# Altium integrated library Panasonic_ERJ_0603.IntLib: 1244 symbols (part 3 of 25)
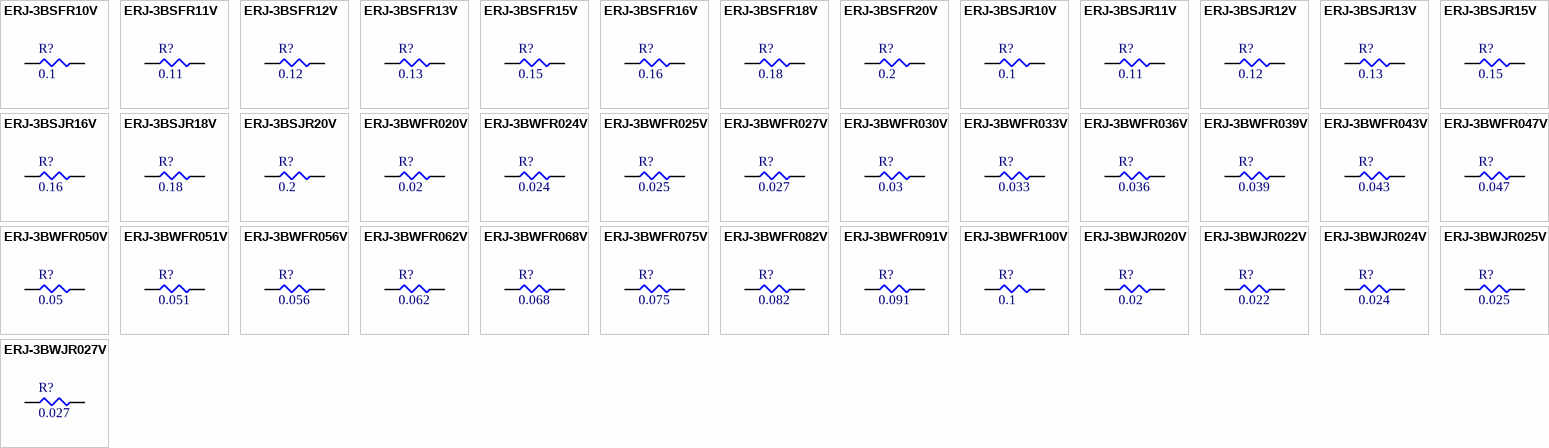
[diagram p33: symbols ERJ-3BSFR10V to ERJ-3BWJR027V]

## ERJ-3BWFR036V
designator R?, comment 0.036
RES SMD 0.036 OHM 1% 1/3W 0603; Part Number: ERJ-3BWFR036V; Manufacturer: Panasonic Electronic Components; Factory Stock: 0; Unit Price (USD): 0.07040; @ qty: 1500; Minimum Quantity: 1; Power (Watts): 0.333W, 1/3W; Temperature Coefficient: ±250ppm/°C; Datasheets: https://industrial.panasonic.com/cdbs/www-data/pdf/RDA0000/AOA0000C239.pdf; Image: //media.digikey.com/Photos/Panasonic%20Photos/MFG_ERJ-P6W%20Series.jpg; Digi-Key Part Number: P17468CT-ND; Quantity Available: 9444; Packaging: Cut Tape (CT); Series: ERJ; Part Status: Active; Value: 0.036; Tolerance: ±1%; Composition: Thick Film; Features: Automotive AEC-Q200, Current Sense; Operating Temperature: -55°C ~ 155°C; Package / Case: 0603 (1608 Metric); Supplier Device Package: 0603; Size / Dimension: 0.063" L x 0.031" W (1.60mm x 0.80mm); Height - Seated (Max): 0.026" (0.65mm); Number of Terminations: 2; Failure Rate: -
footprint SMD-0603-RES
pins: 1, 2

## ERJ-3BWFR039V
designator R?, comment 0.039
RES SMD 0.039 OHM 1% 1/3W 0603; Part Number: ERJ-3BWFR039V; Manufacturer: Panasonic Electronic Components; Factory Stock: 0; Unit Price (USD): 0.07040; @ qty: 1500; Minimum Quantity: 1; Power (Watts): 0.333W, 1/3W; Temperature Coefficient: ±150ppm/°C; Datasheets: https://industrial.panasonic.com/cdbs/www-data/pdf/RDA0000/AOA0000C239.pdf; Image: //media.digikey.com/Photos/Panasonic%20Photos/MFG_ERJ-P6W%20Series.jpg; Digi-Key Part Number: P17469CT-ND; Quantity Available: 5217; Packaging: Cut Tape (CT); Series: ERJ; Part Status: Active; Value: 0.039; Tolerance: ±1%; Composition: Thick Film; Features: Automotive AEC-Q200, Current Sense; Operating Temperature: -55°C ~ 155°C; Package / Case: 0603 (1608 Metric); Supplier Device Package: 0603; Size / Dimension: 0.063" L x 0.031" W (1.60mm x 0.80mm); Height - Seated (Max): 0.026" (0.65mm); Number of Terminations: 2; Failure Rate: -
footprint SMD-0603-RES
pins: 1, 2

## ERJ-3BWFR043V
designator R?, comment 0.043
RES SMD 0.043 OHM 1% 1/3W 0603; Part Number: ERJ-3BWFR043V; Manufacturer: Panasonic Electronic Components; Factory Stock: 0; Unit Price (USD): 0.07040; @ qty: 1500; Minimum Quantity: 1; Power (Watts): 0.333W, 1/3W; Temperature Coefficient: ±150ppm/°C; Datasheets: https://industrial.panasonic.com/cdbs/www-data/pdf/RDA0000/AOA0000C239.pdf; Image: //media.digikey.com/Photos/Panasonic%20Photos/MFG_ERJ-P6W%20Series.jpg; Digi-Key Part Number: P17470CT-ND; Quantity Available: 3820; Packaging: Cut Tape (CT); Series: ERJ; Part Status: Active; Value: 0.043; Tolerance: ±1%; Composition: Thick Film; Features: Automotive AEC-Q200, Current Sense; Operating Temperature: -55°C ~ 155°C; Package / Case: 0603 (1608 Metric); Supplier Device Package: 0603; Size / Dimension: 0.063" L x 0.031" W (1.60mm x 0.80mm); Height - Seated (Max): 0.026" (0.65mm); Number of Terminations: 2; Failure Rate: -
footprint SMD-0603-RES
pins: 1, 2

## ERJ-3BWFR047V
designator R?, comment 0.047
RES SMD 0.047 OHM 1% 1/3W 0603; Part Number: ERJ-3BWFR047V; Manufacturer: Panasonic Electronic Components; Factory Stock: 0; Unit Price (USD): 0.07040; @ qty: 1500; Minimum Quantity: 1; Power (Watts): 0.333W, 1/3W; Temperature Coefficient: ±150ppm/°C; Datasheets: https://industrial.panasonic.com/cdbs/www-data/pdf/RDA0000/AOA0000C239.pdf; Image: //media.digikey.com/Photos/Panasonic%20Photos/MFG_ERJ-P6W%20Series.jpg; Digi-Key Part Number: P17471CT-ND; Quantity Available: 990; Packaging: Cut Tape (CT); Series: ERJ; Part Status: Active; Value: 0.047; Tolerance: ±1%; Composition: Thick Film; Features: Automotive AEC-Q200, Current Sense; Operating Temperature: -55°C ~ 155°C; Package / Case: 0603 (1608 Metric); Supplier Device Package: 0603; Size / Dimension: 0.063" L x 0.031" W (1.60mm x 0.80mm); Height - Seated (Max): 0.026" (0.65mm); Number of Terminations: 2; Failure Rate: -
footprint SMD-0603-RES
pins: 1, 2

## ERJ-3BWFR050V
designator R?, comment 0.05
RES SMD 0.05 OHM 1% 1/3W 0603; Part Number: ERJ-3BWFR050V; Manufacturer: Panasonic Electronic Components; Factory Stock: 0; Unit Price (USD): 0.07040; @ qty: 1500; Minimum Quantity: 1; Power (Watts): 0.333W, 1/3W; Temperature Coefficient: ±150ppm/°C; Datasheets: https://industrial.panasonic.com/cdbs/www-data/pdf/RDA0000/AOA0000C239.pdf; Image: //media.digikey.com/Photos/Panasonic%20Photos/MFG_ERJ-P6W%20Series.jpg; Digi-Key Part Number: P17472CT-ND; Quantity Available: 7951; Packaging: Cut Tape (CT); Series: ERJ; Part Status: Active; Value: 0.05; Tolerance: ±1%; Composition: Thick Film; Features: Automotive AEC-Q200, Current Sense; Operating Temperature: -55°C ~ 155°C; Package / Case: 0603 (1608 Metric); Supplier Device Package: 0603; Size / Dimension: 0.063" L x 0.031" W (1.60mm x 0.80mm); Height - Seated (Max): 0.026" (0.65mm); Number of Terminations: 2; Failure Rate: -
footprint SMD-0603-RES
pins: 1, 2

## ERJ-3BWFR051V
designator R?, comment 0.051
RES SMD 0.051 OHM 1% 1/3W 0603; Part Number: ERJ-3BWFR051V; Manufacturer: Panasonic Electronic Components; Factory Stock: 0; Unit Price (USD): 0.07040; @ qty: 1500; Minimum Quantity: 1; Power (Watts): 0.333W, 1/3W; Temperature Coefficient: ±150ppm/°C; Datasheets: https://industrial.panasonic.com/cdbs/www-data/pdf/RDA0000/AOA0000C239.pdf; Image: //media.digikey.com/Photos/Panasonic%20Photos/MFG_ERJ-P6W%20Series.jpg; Digi-Key Part Number: P17473CT-ND; Quantity Available: 32866; Packaging: Cut Tape (CT); Series: ERJ; Part Status: Active; Value: 0.051; Tolerance: ±1%; Composition: Thick Film; Features: Automotive AEC-Q200, Current Sense; Operating Temperature: -55°C ~ 155°C; Package / Case: 0603 (1608 Metric); Supplier Device Package: 0603; Size / Dimension: 0.063" L x 0.031" W (1.60mm x 0.80mm); Height - Seated (Max): 0.026" (0.65mm); Number of Terminations: 2; Failure Rate: -
footprint SMD-0603-RES
pins: 1, 2

## ERJ-3BWFR056V
designator R?, comment 0.056
RES SMD 0.056 OHM 1% 1/3W 0603; Part Number: ERJ-3BWFR056V; Manufacturer: Panasonic Electronic Components; Factory Stock: 0; Unit Price (USD): 0.09600; @ qty: 1500; Minimum Quantity: 1; Power (Watts): 0.333W, 1/3W; Temperature Coefficient: ±150ppm/°C; Datasheets: https://industrial.panasonic.com/cdbs/www-data/pdf/RDA0000/AOA0000C239.pdf; Image: //media.digikey.com/Photos/Panasonic%20Photos/MFG_ERJ-P6W%20Series.jpg; Digi-Key Part Number: P17249CT-ND; Quantity Available: 2303; Packaging: Cut Tape (CT); Series: ERJ; Part Status: Active; Value: 0.056; Tolerance: ±1%; Composition: Thick Film; Features: Automotive AEC-Q200, Current Sense; Operating Temperature: -55°C ~ 155°C; Package / Case: 0603 (1608 Metric); Supplier Device Package: 0603; Size / Dimension: 0.063" L x 0.031" W (1.60mm x 0.80mm); Height - Seated (Max): 0.026" (0.65mm); Number of Terminations: 2; Failure Rate: -
footprint SMD-0603-RES
pins: 1, 2

## ERJ-3BWFR062V
designator R?, comment 0.062
RES SMD 0.062 OHM 1% 1/3W 0603; Part Number: ERJ-3BWFR062V; Manufacturer: Panasonic Electronic Components; Factory Stock: 0; Unit Price (USD): 0.07040; @ qty: 1500; Minimum Quantity: 1; Power (Watts): 0.333W, 1/3W; Temperature Coefficient: ±150ppm/°C; Datasheets: https://industrial.panasonic.com/cdbs/www-data/pdf/RDA0000/AOA0000C239.pdf; Image: //media.digikey.com/Photos/Panasonic%20Photos/MFG_ERJ-P6W%20Series.jpg; Digi-Key Part Number: P17474CT-ND; Quantity Available: 9074; Packaging: Cut Tape (CT); Series: ERJ; Part Status: Active; Value: 0.062; Tolerance: ±1%; Composition: Thick Film; Features: Automotive AEC-Q200, Current Sense; Operating Temperature: -55°C ~ 155°C; Package / Case: 0603 (1608 Metric); Supplier Device Package: 0603; Size / Dimension: 0.063" L x 0.031" W (1.60mm x 0.80mm); Height - Seated (Max): 0.026" (0.65mm); Number of Terminations: 2; Failure Rate: -
footprint SMD-0603-RES
pins: 1, 2

## ERJ-3BWFR068V
designator R?, comment 0.068
RES SMD 0.068 OHM 1% 1/3W 0603; Part Number: ERJ-3BWFR068V; Manufacturer: Panasonic Electronic Components; Factory Stock: 0; Unit Price (USD): 0.15960; @ qty: 1500; Minimum Quantity: 1; Power (Watts): 0.333W, 1/3W; Temperature Coefficient: ±150ppm/°C; Datasheets: https://industrial.panasonic.com/cdbs/www-data/pdf/RDA0000/AOA0000C239.pdf; Image: //media.digikey.com/Photos/Panasonic%20Photos/MFG_ERJ-P6W%20Series.jpg; Digi-Key Part Number: P15990CT-ND; Quantity Available: 11832; Packaging: Cut Tape (CT); Series: ERJ; Part Status: Active; Value: 0.068; Tolerance: ±1%; Composition: Thick Film; Features: Automotive AEC-Q200, Current Sense; Operating Temperature: -55°C ~ 155°C; Package / Case: 0603 (1608 Metric); Supplier Device Package: 0603; Size / Dimension: 0.063" L x 0.031" W (1.60mm x 0.80mm); Height - Seated (Max): 0.026" (0.65mm); Number of Terminations: 2; Failure Rate: -
footprint SMD-0603-RES
pins: 1, 2

## ERJ-3BWFR075V
designator R?, comment 0.075
RES SMD 0.075 OHM 1% 1/3W 0603; Part Number: ERJ-3BWFR075V; Manufacturer: Panasonic Electronic Components; Factory Stock: 0; Unit Price (USD): 0.07040; @ qty: 1500; Minimum Quantity: 1; Power (Watts): 0.333W, 1/3W; Temperature Coefficient: ±150ppm/°C; Datasheets: https://industrial.panasonic.com/cdbs/www-data/pdf/RDA0000/AOA0000C239.pdf; Image: //media.digikey.com/Photos/Panasonic%20Photos/MFG_ERJ-P6W%20Series.jpg; Digi-Key Part Number: P17475CT-ND; Quantity Available: 2217; Packaging: Cut Tape (CT); Series: ERJ; Part Status: Active; Value: 0.075; Tolerance: ±1%; Composition: Thick Film; Features: Automotive AEC-Q200, Current Sense; Operating Temperature: -55°C ~ 155°C; Package / Case: 0603 (1608 Metric); Supplier Device Package: 0603; Size / Dimension: 0.063" L x 0.031" W (1.60mm x 0.80mm); Height - Seated (Max): 0.026" (0.65mm); Number of Terminations: 2; Failure Rate: -
footprint SMD-0603-RES
pins: 1, 2

## ERJ-3BWFR082V
designator R?, comment 0.082
RES SMD 0.082 OHM 1% 1/3W 0603; Part Number: ERJ-3BWFR082V; Manufacturer: Panasonic Electronic Components; Factory Stock: 0; Unit Price (USD): 0.07040; @ qty: 1500; Minimum Quantity: 1; Power (Watts): 0.333W, 1/3W; Temperature Coefficient: ±150ppm/°C; Datasheets: https://industrial.panasonic.com/cdbs/www-data/pdf/RDA0000/AOA0000C239.pdf; Image: //media.digikey.com/Photos/Panasonic%20Photos/MFG_ERJ-P6W%20Series.jpg; Digi-Key Part Number: P17476CT-ND; Quantity Available: 3875; Packaging: Cut Tape (CT); Series: ERJ; Part Status: Active; Value: 0.082; Tolerance: ±1%; Composition: Thick Film; Features: Automotive AEC-Q200, Current Sense; Operating Temperature: -55°C ~ 155°C; Package / Case: 0603 (1608 Metric); Supplier Device Package: 0603; Size / Dimension: 0.063" L x 0.031" W (1.60mm x 0.80mm); Height - Seated (Max): 0.026" (0.65mm); Number of Terminations: 2; Failure Rate: -
footprint SMD-0603-RES
pins: 1, 2

## ERJ-3BWFR091V
designator R?, comment 0.091
RES SMD 0.091 OHM 1% 1/3W 0603; Part Number: ERJ-3BWFR091V; Manufacturer: Panasonic Electronic Components; Factory Stock: 0; Unit Price (USD): 0.07040; @ qty: 1500; Minimum Quantity: 1; Power (Watts): 0.333W, 1/3W; Temperature Coefficient: ±150ppm/°C; Datasheets: https://industrial.panasonic.com/cdbs/www-data/pdf/RDA0000/AOA0000C239.pdf; Image: //media.digikey.com/Photos/Panasonic%20Photos/MFG_ERJ-P6W%20Series.jpg; Digi-Key Part Number: P17477CT-ND; Quantity Available: 3390; Packaging: Cut Tape (CT); Series: ERJ; Part Status: Active; Value: 0.091; Tolerance: ±1%; Composition: Thick Film; Features: Automotive AEC-Q200, Current Sense; Operating Temperature: -55°C ~ 155°C; Package / Case: 0603 (1608 Metric); Supplier Device Package: 0603; Size / Dimension: 0.063" L x 0.031" W (1.60mm x 0.80mm); Height - Seated (Max): 0.026" (0.65mm); Number of Terminations: 2; Failure Rate: -
footprint SMD-0603-RES
pins: 1, 2

## ERJ-3BWFR100V
designator R?, comment 0.1
RES SMD 0.1 OHM 1% 1/3W 0603; Part Number: ERJ-3BWFR100V; Manufacturer: Panasonic Electronic Components; Factory Stock: 0; Unit Price (USD): 0.07040; @ qty: 1500; Minimum Quantity: 1; Power (Watts): 0.333W, 1/3W; Temperature Coefficient: ±150ppm/°C; Datasheets: https://industrial.panasonic.com/cdbs/www-data/pdf/RDA0000/AOA0000C239.pdf; Image: //media.digikey.com/Photos/Panasonic%20Photos/MFG_ERJ-P6W%20Series.jpg; Digi-Key Part Number: P17478CT-ND; Quantity Available: 5222; Packaging: Cut Tape (CT); Series: ERJ; Part Status: Active; Value: 0.1; Tolerance: ±1%; Composition: Thick Film; Features: Automotive AEC-Q200, Current Sense; Operating Temperature: -55°C ~ 155°C; Package / Case: 0603 (1608 Metric); Supplier Device Package: 0603; Size / Dimension: 0.063" L x 0.031" W (1.60mm x 0.80mm); Height - Seated (Max): 0.026" (0.65mm); Number of Terminations: 2; Failure Rate: -
footprint SMD-0603-RES
pins: 1, 2

## ERJ-3BWJR020V
designator R?, comment 0.02
RES SMD 0.02 OHM 5% 1/3W 0603; Part Number: ERJ-3BWJR020V; Manufacturer: Panasonic Electronic Components; Factory Stock: 0; Unit Price (USD): 0.08008; @ qty: 1500; Minimum Quantity: 1; Power (Watts): 0.333W, 1/3W; Temperature Coefficient: ±250ppm/°C; Datasheets: https://industrial.panasonic.com/cdbs/www-data/pdf/RDA0000/AOA0000C239.pdf; Image: //media.digikey.com/Photos/Panasonic%20Photos/MFG_ERJ-P6W%20Series.jpg; Digi-Key Part Number: P17479CT-ND; Quantity Available: 4400; Packaging: Cut Tape (CT); Series: ERJ; Part Status: Active; Value: 0.02; Tolerance: ±5%; Composition: Thick Film; Features: Automotive AEC-Q200, Current Sense; Operating Temperature: -55°C ~ 155°C; Package / Case: 0603 (1608 Metric); Supplier Device Package: 0603; Size / Dimension: 0.063" L x 0.031" W (1.60mm x 0.80mm); Height - Seated (Max): 0.026" (0.65mm); Number of Terminations: 2; Failure Rate: -
footprint SMD-0603-RES
pins: 1, 2

## ERJ-3BWJR022V
designator R?, comment 0.022
RES SMD 0.022 OHM 5% 1/3W 0603; Part Number: ERJ-3BWJR022V; Manufacturer: Panasonic Electronic Components; Factory Stock: 0; Unit Price (USD): 0.08008; @ qty: 1500; Minimum Quantity: 1; Power (Watts): 0.333W, 1/3W; Temperature Coefficient: ±250ppm/°C; Datasheets: https://industrial.panasonic.com/cdbs/www-data/pdf/RDA0000/AOA0000C239.pdf; Image: //media.digikey.com/Photos/Panasonic%20Photos/MFG_ERJ-P6W%20Series.jpg; Digi-Key Part Number: P17480CT-ND; Quantity Available: 5000; Packaging: Cut Tape (CT); Series: ERJ; Part Status: Active; Value: 0.022; Tolerance: ±5%; Composition: Thick Film; Features: Automotive AEC-Q200, Current Sense; Operating Temperature: -55°C ~ 155°C; Package / Case: 0603 (1608 Metric); Supplier Device Package: 0603; Size / Dimension: 0.063" L x 0.031" W (1.60mm x 0.80mm); Height - Seated (Max): 0.026" (0.65mm); Number of Terminations: 2; Failure Rate: -
footprint SMD-0603-RES
pins: 1, 2

## ERJ-3BWJR024V
designator R?, comment 0.024
RES SMD 0.024 OHM 5% 1/3W 0603; Part Number: ERJ-3BWJR024V; Manufacturer: Panasonic Electronic Components; Factory Stock: 0; Unit Price (USD): 0.08008; @ qty: 1500; Minimum Quantity: 1; Power (Watts): 0.333W, 1/3W; Temperature Coefficient: ±250ppm/°C; Datasheets: https://industrial.panasonic.com/cdbs/www-data/pdf/RDA0000/AOA0000C239.pdf; Image: //media.digikey.com/Photos/Panasonic%20Photos/MFG_ERJ-P6W%20Series.jpg; Digi-Key Part Number: P17481CT-ND; Quantity Available: 5000; Packaging: Cut Tape (CT); Series: ERJ; Part Status: Active; Value: 0.024; Tolerance: ±5%; Composition: Thick Film; Features: Automotive AEC-Q200, Current Sense; Operating Temperature: -55°C ~ 155°C; Package / Case: 0603 (1608 Metric); Supplier Device Package: 0603; Size / Dimension: 0.063" L x 0.031" W (1.60mm x 0.80mm); Height - Seated (Max): 0.026" (0.65mm); Number of Terminations: 2; Failure Rate: -
footprint SMD-0603-RES
pins: 1, 2

## ERJ-3BWJR025V
designator R?, comment 0.025
RES SMD 0.025 OHM 5% 1/3W 0603; Part Number: ERJ-3BWJR025V; Manufacturer: Panasonic Electronic Components; Factory Stock: 0; Unit Price (USD): 0.08008; @ qty: 1500; Minimum Quantity: 1; Power (Watts): 0.333W, 1/3W; Temperature Coefficient: ±250ppm/°C; Datasheets: https://industrial.panasonic.com/cdbs/www-data/pdf/RDA0000/AOA0000C239.pdf; Image: //media.digikey.com/Photos/Panasonic%20Photos/MFG_ERJ-P6W%20Series.jpg; Digi-Key Part Number: P17482CT-ND; Quantity Available: 4881; Packaging: Cut Tape (CT); Series: ERJ; Part Status: Active; Value: 0.025; Tolerance: ±5%; Composition: Thick Film; Features: Automotive AEC-Q200, Current Sense; Operating Temperature: -55°C ~ 155°C; Package / Case: 0603 (1608 Metric); Supplier Device Package: 0603; Size / Dimension: 0.063" L x 0.031" W (1.60mm x 0.80mm); Height - Seated (Max): 0.026" (0.65mm); Number of Terminations: 2; Failure Rate: -
footprint SMD-0603-RES
pins: 1, 2

## ERJ-3BWJR027V
designator R?, comment 0.027
RES SMD 0.027 OHM 5% 1/3W 0603; Part Number: ERJ-3BWJR027V; Manufacturer: Panasonic Electronic Components; Factory Stock: 0; Unit Price (USD): 0.08008; @ qty: 1500; Minimum Quantity: 1; Power (Watts): 0.333W, 1/3W; Temperature Coefficient: ±250ppm/°C; Datasheets: https://industrial.panasonic.com/cdbs/www-data/pdf/RDA0000/AOA0000C239.pdf; Image: //media.digikey.com/Photos/Panasonic%20Photos/MFG_ERJ-P6W%20Series.jpg; Digi-Key Part Number: P17483CT-ND; Quantity Available: 4750; Packaging: Cut Tape (CT); Series: ERJ; Part Status: Active; Value: 0.027; Tolerance: ±5%; Composition: Thick Film; Features: Automotive AEC-Q200, Current Sense; Operating Temperature: -55°C ~ 155°C; Package / Case: 0603 (1608 Metric); Supplier Device Package: 0603; Size / Dimension: 0.063" L x 0.031" W (1.60mm x 0.80mm); Height - Seated (Max): 0.026" (0.65mm); Number of Terminations: 2; Failure Rate: -
footprint SMD-0603-RES
pins: 1, 2

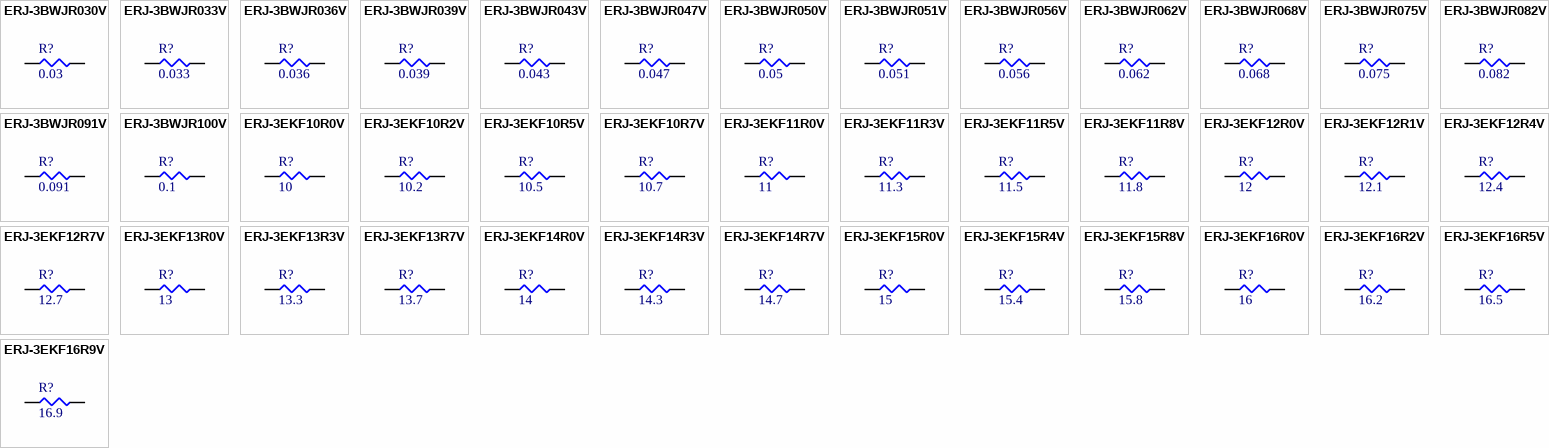
[diagram p3: symbols ERJ-3BWJR030V to ERJ-3EKF16R9V]

## ERJ-3BWJR030V
designator R?, comment 0.03
RES SMD 0.03 OHM 5% 1/3W 0603; Part Number: ERJ-3BWJR030V; Manufacturer: Panasonic Electronic Components; Factory Stock: 0; Unit Price (USD): 0.08008; @ qty: 1500; Minimum Quantity: 1; Power (Watts): 0.333W, 1/3W; Temperature Coefficient: ±250ppm/°C; Datasheets: https://industrial.panasonic.com/cdbs/www-data/pdf/RDA0000/AOA0000C239.pdf; Image: //media.digikey.com/Photos/Panasonic%20Photos/MFG_ERJ-P6W%20Series.jpg; Digi-Key Part Number: P17484CT-ND; Quantity Available: 4990; Packaging: Cut Tape (CT); Series: ERJ; Part Status: Active; Value: 0.03; Tolerance: ±5%; Composition: Thick Film; Features: Automotive AEC-Q200, Current Sense; Operating Temperature: -55°C ~ 155°C; Package / Case: 0603 (1608 Metric); Supplier Device Package: 0603; Size / Dimension: 0.063" L x 0.031" W (1.60mm x 0.80mm); Height - Seated (Max): 0.026" (0.65mm); Number of Terminations: 2; Failure Rate: -
footprint SMD-0603-RES
pins: 1, 2

## ERJ-3BWJR033V
designator R?, comment 0.033
RES SMD 0.033 OHM 5% 1/3W 0603; Part Number: ERJ-3BWJR033V; Manufacturer: Panasonic Electronic Components; Factory Stock: 0; Unit Price (USD): 0.08008; @ qty: 1500; Minimum Quantity: 1; Power (Watts): 0.333W, 1/3W; Temperature Coefficient: ±250ppm/°C; Datasheets: https://industrial.panasonic.com/cdbs/www-data/pdf/RDA0000/AOA0000C239.pdf; Image: //media.digikey.com/Photos/Panasonic%20Photos/MFG_ERJ-P6W%20Series.jpg; Digi-Key Part Number: P17485CT-ND; Quantity Available: 4240; Packaging: Cut Tape (CT); Series: ERJ; Part Status: Active; Value: 0.033; Tolerance: ±5%; Composition: Thick Film; Features: Automotive AEC-Q200, Current Sense; Operating Temperature: -55°C ~ 155°C; Package / Case: 0603 (1608 Metric); Supplier Device Package: 0603; Size / Dimension: 0.063" L x 0.031" W (1.60mm x 0.80mm); Height - Seated (Max): 0.026" (0.65mm); Number of Terminations: 2; Failure Rate: -
footprint SMD-0603-RES
pins: 1, 2

## ERJ-3BWJR036V
designator R?, comment 0.036
RES SMD 0.036 OHM 5% 1/3W 0603; Part Number: ERJ-3BWJR036V; Manufacturer: Panasonic Electronic Components; Factory Stock: 0; Unit Price (USD): 0.08008; @ qty: 1500; Minimum Quantity: 1; Power (Watts): 0.333W, 1/3W; Temperature Coefficient: ±250ppm/°C; Datasheets: https://industrial.panasonic.com/cdbs/www-data/pdf/RDA0000/AOA0000C239.pdf; Image: //media.digikey.com/Photos/Panasonic%20Photos/MFG_ERJ-P6W%20Series.jpg; Digi-Key Part Number: P17486CT-ND; Quantity Available: 5000; Packaging: Cut Tape (CT); Series: ERJ; Part Status: Active; Value: 0.036; Tolerance: ±5%; Composition: Thick Film; Features: Automotive AEC-Q200, Current Sense; Operating Temperature: -55°C ~ 155°C; Package / Case: 0603 (1608 Metric); Supplier Device Package: 0603; Size / Dimension: 0.063" L x 0.031" W (1.60mm x 0.80mm); Height - Seated (Max): 0.026" (0.65mm); Number of Terminations: 2; Failure Rate: -
footprint SMD-0603-RES
pins: 1, 2

## ERJ-3BWJR039V
designator R?, comment 0.039
RES SMD 0.039 OHM 5% 1/3W 0603; Part Number: ERJ-3BWJR039V; Manufacturer: Panasonic Electronic Components; Factory Stock: 0; Unit Price (USD): 0.08008; @ qty: 1500; Minimum Quantity: 1; Power (Watts): 0.333W, 1/3W; Temperature Coefficient: ±150ppm/°C; Datasheets: https://industrial.panasonic.com/cdbs/www-data/pdf/RDA0000/AOA0000C239.pdf; Image: //media.digikey.com/Photos/Panasonic%20Photos/MFG_ERJ-P6W%20Series.jpg; Digi-Key Part Number: P17487CT-ND; Quantity Available: 4900; Packaging: Cut Tape (CT); Series: ERJ; Part Status: Active; Value: 0.039; Tolerance: ±5%; Composition: Thick Film; Features: Automotive AEC-Q200, Current Sense; Operating Temperature: -55°C ~ 155°C; Package / Case: 0603 (1608 Metric); Supplier Device Package: 0603; Size / Dimension: 0.063" L x 0.031" W (1.60mm x 0.80mm); Height - Seated (Max): 0.026" (0.65mm); Number of Terminations: 2; Failure Rate: -
footprint SMD-0603-RES
pins: 1, 2

## ERJ-3BWJR043V
designator R?, comment 0.043
RES SMD 0.043 OHM 5% 1/3W 0603; Part Number: ERJ-3BWJR043V; Manufacturer: Panasonic Electronic Components; Factory Stock: 0; Unit Price (USD): 0.08008; @ qty: 1500; Minimum Quantity: 1; Power (Watts): 0.333W, 1/3W; Temperature Coefficient: ±150ppm/°C; Datasheets: https://industrial.panasonic.com/cdbs/www-data/pdf/RDA0000/AOA0000C239.pdf; Image: //media.digikey.com/Photos/Panasonic%20Photos/MFG_ERJ-P6W%20Series.jpg; Digi-Key Part Number: P17488CT-ND; Quantity Available: 4950; Packaging: Cut Tape (CT); Series: ERJ; Part Status: Active; Value: 0.043; Tolerance: ±5%; Composition: Thick Film; Features: Automotive AEC-Q200, Current Sense; Operating Temperature: -55°C ~ 155°C; Package / Case: 0603 (1608 Metric); Supplier Device Package: 0603; Size / Dimension: 0.063" L x 0.031" W (1.60mm x 0.80mm); Height - Seated (Max): 0.026" (0.65mm); Number of Terminations: 2; Failure Rate: -
footprint SMD-0603-RES
pins: 1, 2

## ERJ-3BWJR047V
designator R?, comment 0.047
RES SMD 0.047 OHM 5% 1/3W 0603; Part Number: ERJ-3BWJR047V; Manufacturer: Panasonic Electronic Components; Factory Stock: 0; Unit Price (USD): 0.08008; @ qty: 1500; Minimum Quantity: 1; Power (Watts): 0.333W, 1/3W; Temperature Coefficient: ±150ppm/°C; Datasheets: https://industrial.panasonic.com/cdbs/www-data/pdf/RDA0000/AOA0000C239.pdf; Image: //media.digikey.com/Photos/Panasonic%20Photos/MFG_ERJ-P6W%20Series.jpg; Digi-Key Part Number: P17489CT-ND; Quantity Available: 4897; Packaging: Cut Tape (CT); Series: ERJ; Part Status: Active; Value: 0.047; Tolerance: ±5%; Composition: Thick Film; Features: Automotive AEC-Q200, Current Sense; Operating Temperature: -55°C ~ 155°C; Package / Case: 0603 (1608 Metric); Supplier Device Package: 0603; Size / Dimension: 0.063" L x 0.031" W (1.60mm x 0.80mm); Height - Seated (Max): 0.026" (0.65mm); Number of Terminations: 2; Failure Rate: -
footprint SMD-0603-RES
pins: 1, 2

## ERJ-3BWJR050V
designator R?, comment 0.05
RES SMD 0.05 OHM 5% 1/3W 0603; Part Number: ERJ-3BWJR050V; Manufacturer: Panasonic Electronic Components; Factory Stock: 0; Unit Price (USD): 0.08008; @ qty: 1500; Minimum Quantity: 1; Power (Watts): 0.333W, 1/3W; Temperature Coefficient: ±150ppm/°C; Datasheets: https://industrial.panasonic.com/cdbs/www-data/pdf/RDA0000/AOA0000C239.pdf; Image: //media.digikey.com/Photos/Panasonic%20Photos/MFG_ERJ-P6W%20Series.jpg; Digi-Key Part Number: P17490CT-ND; Quantity Available: 4890; Packaging: Cut Tape (CT); Series: ERJ; Part Status: Active; Value: 0.05; Tolerance: ±5%; Composition: Thick Film; Features: Automotive AEC-Q200, Current Sense; Operating Temperature: -55°C ~ 155°C; Package / Case: 0603 (1608 Metric); Supplier Device Package: 0603; Size / Dimension: 0.063" L x 0.031" W (1.60mm x 0.80mm); Height - Seated (Max): 0.026" (0.65mm); Number of Terminations: 2; Failure Rate: -
footprint SMD-0603-RES
pins: 1, 2

## ERJ-3BWJR051V
designator R?, comment 0.051
RES SMD 0.051 OHM 5% 1/3W 0603; Part Number: ERJ-3BWJR051V; Manufacturer: Panasonic Electronic Components; Factory Stock: 0; Unit Price (USD): 0.08008; @ qty: 1500; Minimum Quantity: 1; Power (Watts): 0.333W, 1/3W; Temperature Coefficient: ±150ppm/°C; Datasheets: https://industrial.panasonic.com/cdbs/www-data/pdf/RDA0000/AOA0000C239.pdf; Image: //media.digikey.com/Photos/Panasonic%20Photos/MFG_ERJ-P6W%20Series.jpg; Digi-Key Part Number: P17491CT-ND; Quantity Available: 5000; Packaging: Cut Tape (CT); Series: ERJ; Part Status: Active; Value: 0.051; Tolerance: ±5%; Composition: Thick Film; Features: Automotive AEC-Q200, Current Sense; Operating Temperature: -55°C ~ 155°C; Package / Case: 0603 (1608 Metric); Supplier Device Package: 0603; Size / Dimension: 0.063" L x 0.031" W (1.60mm x 0.80mm); Height - Seated (Max): 0.026" (0.65mm); Number of Terminations: 2; Failure Rate: -
footprint SMD-0603-RES
pins: 1, 2

## ERJ-3BWJR056V
designator R?, comment 0.056
RES SMD 0.056 OHM 5% 1/3W 0603; Part Number: ERJ-3BWJR056V; Manufacturer: Panasonic Electronic Components; Factory Stock: 0; Unit Price (USD): 0.08008; @ qty: 1500; Minimum Quantity: 1; Power (Watts): 0.333W, 1/3W; Temperature Coefficient: ±150ppm/°C; Datasheets: https://industrial.panasonic.com/cdbs/www-data/pdf/RDA0000/AOA0000C239.pdf; Image: //media.digikey.com/Photos/Panasonic%20Photos/MFG_ERJ-P6W%20Series.jpg; Digi-Key Part Number: P17492CT-ND; Quantity Available: 4800; Packaging: Cut Tape (CT); Series: ERJ; Part Status: Active; Value: 0.056; Tolerance: ±5%; Composition: Thick Film; Features: Automotive AEC-Q200, Current Sense; Operating Temperature: -55°C ~ 155°C; Package / Case: 0603 (1608 Metric); Supplier Device Package: 0603; Size / Dimension: 0.063" L x 0.031" W (1.60mm x 0.80mm); Height - Seated (Max): 0.026" (0.65mm); Number of Terminations: 2; Failure Rate: -
footprint SMD-0603-RES
pins: 1, 2

## ERJ-3BWJR062V
designator R?, comment 0.062
RES SMD 0.062 OHM 5% 1/3W 0603; Part Number: ERJ-3BWJR062V; Manufacturer: Panasonic Electronic Components; Factory Stock: 0; Unit Price (USD): 0.08008; @ qty: 1500; Minimum Quantity: 1; Power (Watts): 0.333W, 1/3W; Temperature Coefficient: ±150ppm/°C; Datasheets: https://industrial.panasonic.com/cdbs/www-data/pdf/RDA0000/AOA0000C239.pdf; Image: //media.digikey.com/Photos/Panasonic%20Photos/MFG_ERJ-P6W%20Series.jpg; Digi-Key Part Number: P17493CT-ND; Quantity Available: 4998; Packaging: Cut Tape (CT); Series: ERJ; Part Status: Active; Value: 0.062; Tolerance: ±5%; Composition: Thick Film; Features: Automotive AEC-Q200, Current Sense; Operating Temperature: -55°C ~ 155°C; Package / Case: 0603 (1608 Metric); Supplier Device Package: 0603; Size / Dimension: 0.063" L x 0.031" W (1.60mm x 0.80mm); Height - Seated (Max): 0.026" (0.65mm); Number of Terminations: 2; Failure Rate: -
footprint SMD-0603-RES
pins: 1, 2

## ERJ-3BWJR068V
designator R?, comment 0.068
RES SMD 0.068 OHM 5% 1/3W 0603; Part Number: ERJ-3BWJR068V; Manufacturer: Panasonic Electronic Components; Factory Stock: 0; Unit Price (USD): 0.08008; @ qty: 1500; Minimum Quantity: 1; Power (Watts): 0.333W, 1/3W; Temperature Coefficient: ±150ppm/°C; Datasheets: https://industrial.panasonic.com/cdbs/www-data/pdf/RDA0000/AOA0000C239.pdf; Image: //media.digikey.com/Photos/Panasonic%20Photos/MFG_ERJ-P6W%20Series.jpg; Digi-Key Part Number: P17494CT-ND; Quantity Available: 4995; Packaging: Cut Tape (CT); Series: ERJ; Part Status: Active; Value: 0.068; Tolerance: ±5%; Composition: Thick Film; Features: Automotive AEC-Q200, Current Sense; Operating Temperature: -55°C ~ 155°C; Package / Case: 0603 (1608 Metric); Supplier Device Package: 0603; Size / Dimension: 0.063" L x 0.031" W (1.60mm x 0.80mm); Height - Seated (Max): 0.026" (0.65mm); Number of Terminations: 2; Failure Rate: -
footprint SMD-0603-RES
pins: 1, 2

## ERJ-3BWJR075V
designator R?, comment 0.075
RES SMD 0.075 OHM 5% 1/3W 0603; Part Number: ERJ-3BWJR075V; Manufacturer: Panasonic Electronic Components; Factory Stock: 0; Unit Price (USD): 0.08008; @ qty: 1500; Minimum Quantity: 1; Power (Watts): 0.333W, 1/3W; Temperature Coefficient: ±150ppm/°C; Datasheets: https://industrial.panasonic.com/cdbs/www-data/pdf/RDA0000/AOA0000C239.pdf; Image: //media.digikey.com/Photos/Panasonic%20Photos/MFG_ERJ-P6W%20Series.jpg; Digi-Key Part Number: P17495CT-ND; Quantity Available: 3890; Packaging: Cut Tape (CT); Series: ERJ; Part Status: Active; Value: 0.075; Tolerance: ±5%; Composition: Thick Film; Features: Automotive AEC-Q200, Current Sense; Operating Temperature: -55°C ~ 155°C; Package / Case: 0603 (1608 Metric); Supplier Device Package: 0603; Size / Dimension: 0.063" L x 0.031" W (1.60mm x 0.80mm); Height - Seated (Max): 0.026" (0.65mm); Number of Terminations: 2; Failure Rate: -
footprint SMD-0603-RES
pins: 1, 2

## ERJ-3BWJR082V
designator R?, comment 0.082
RES SMD 0.082 OHM 5% 1/3W 0603; Part Number: ERJ-3BWJR082V; Manufacturer: Panasonic Electronic Components; Factory Stock: 0; Unit Price (USD): 0.08008; @ qty: 1500; Minimum Quantity: 1; Power (Watts): 0.333W, 1/3W; Temperature Coefficient: ±150ppm/°C; Datasheets: https://industrial.panasonic.com/cdbs/www-data/pdf/RDA0000/AOA0000C239.pdf; Image: //media.digikey.com/Photos/Panasonic%20Photos/MFG_ERJ-P6W%20Series.jpg; Digi-Key Part Number: P17496CT-ND; Quantity Available: 5000; Packaging: Cut Tape (CT); Series: ERJ; Part Status: Active; Value: 0.082; Tolerance: ±5%; Composition: Thick Film; Features: Automotive AEC-Q200, Current Sense; Operating Temperature: -55°C ~ 155°C; Package / Case: 0603 (1608 Metric); Supplier Device Package: 0603; Size / Dimension: 0.063" L x 0.031" W (1.60mm x 0.80mm); Height - Seated (Max): 0.026" (0.65mm); Number of Terminations: 2; Failure Rate: -
footprint SMD-0603-RES
pins: 1, 2

## ERJ-3BWJR091V
designator R?, comment 0.091
RES SMD 0.091 OHM 5% 1/3W 0603; Part Number: ERJ-3BWJR091V; Manufacturer: Panasonic Electronic Components; Factory Stock: 0; Unit Price (USD): 0.08008; @ qty: 1500; Minimum Quantity: 1; Power (Watts): 0.333W, 1/3W; Temperature Coefficient: ±150ppm/°C; Datasheets: https://industrial.panasonic.com/cdbs/www-data/pdf/RDA0000/AOA0000C239.pdf; Image: //media.digikey.com/Photos/Panasonic%20Photos/MFG_ERJ-P6W%20Series.jpg; Digi-Key Part Number: P17497CT-ND; Quantity Available: 5000; Packaging: Cut Tape (CT); Series: ERJ; Part Status: Active; Value: 0.091; Tolerance: ±5%; Composition: Thick Film; Features: Automotive AEC-Q200, Current Sense; Operating Temperature: -55°C ~ 155°C; Package / Case: 0603 (1608 Metric); Supplier Device Package: 0603; Size / Dimension: 0.063" L x 0.031" W (1.60mm x 0.80mm); Height - Seated (Max): 0.026" (0.65mm); Number of Terminations: 2; Failure Rate: -
footprint SMD-0603-RES
pins: 1, 2

## ERJ-3BWJR100V
designator R?, comment 0.1
RES SMD 0.1 OHM 5% 1/3W 0603; Part Number: ERJ-3BWJR100V; Manufacturer: Panasonic Electronic Components; Factory Stock: 0; Unit Price (USD): 0.08008; @ qty: 1500; Minimum Quantity: 1; Power (Watts): 0.333W, 1/3W; Temperature Coefficient: ±150ppm/°C; Datasheets: https://industrial.panasonic.com/cdbs/www-data/pdf/RDA0000/AOA0000C239.pdf; Image: //media.digikey.com/Photos/Panasonic%20Photos/MFG_ERJ-P6W%20Series.jpg; Digi-Key Part Number: P17498CT-ND; Quantity Available: 5000; Packaging: Cut Tape (CT); Series: ERJ; Part Status: Active; Value: 0.1; Tolerance: ±5%; Composition: Thick Film; Features: Automotive AEC-Q200, Current Sense; Operating Temperature: -55°C ~ 155°C; Package / Case: 0603 (1608 Metric); Supplier Device Package: 0603; Size / Dimension: 0.063" L x 0.031" W (1.60mm x 0.80mm); Height - Seated (Max): 0.026" (0.65mm); Number of Terminations: 2; Failure Rate: -
footprint SMD-0603-RES
pins: 1, 2

## ERJ-3EKF10R0V
designator R?, comment 10
RES SMD 10 OHM 1% 1/10W 0603; Part Number: ERJ-3EKF10R0V; Manufacturer: Panasonic Electronic Components; Factory Stock: 0; Unit Price (USD): 0.00379; @ qty: 1500; Minimum Quantity: 1; Power (Watts): 0.1W, 1/10W; Temperature Coefficient: ±100ppm/°C; Datasheets: http://industrial.panasonic.com/www-cgi/jvcr13pz.cgi?E+PZ+3+AOA0002+ERJ3EKF10R0V+7+WW; Image: //media.digikey.com/Photos/Panasonic%20Photos/MFG_ERJ-P6W%20Series.jpg; Digi-Key Part Number: P10.0HCT-ND; Quantity Available: 676435; Packaging: Cut Tape (CT); Series: ERJ; Part Status: Active; Value: 10; Tolerance: ±1%; Composition: Thick Film; Features: Automotive AEC-Q200; Operating Temperature: -55°C ~ 155°C; Package / Case: 0603 (1608 Metric); Supplier Device Package: 0603; Size / Dimension: 0.063" L x 0.031" W (1.60mm x 0.80mm); Height - Seated (Max): 0.022" (0.55mm); Number of Terminations: 2; Failure Rate: -
footprint SMD-0603-RES
pins: 1, 2

## ERJ-3EKF10R2V
designator R?, comment 10.2
RES SMD 10.2 OHM 1% 1/10W 0603; Part Number: ERJ-3EKF10R2V; Manufacturer: Panasonic Electronic Components; Factory Stock: 0; Unit Price (USD): 0.00379; @ qty: 1500; Minimum Quantity: 1; Power (Watts): 0.1W, 1/10W; Temperature Coefficient: ±100ppm/°C; Datasheets: http://industrial.panasonic.com/www-cgi/jvcr13pz.cgi?E+PZ+3+AOA0002+ERJ3EKF10R2V+7+WW; Image: //media.digikey.com/Photos/Panasonic%20Photos/MFG_ERJ-P6W%20Series.jpg; Digi-Key Part Number: P10.2HCT-ND; Quantity Available: 38908; Packaging: Cut Tape (CT); Series: ERJ; Part Status: Active; Value: 10.2; Tolerance: ±1%; Composition: Thick Film; Features: Automotive AEC-Q200; Operating Temperature: -55°C ~ 155°C; Package / Case: 0603 (1608 Metric); Supplier Device Package: 0603; Size / Dimension: 0.063" L x 0.031" W (1.60mm x 0.80mm); Height - Seated (Max): 0.022" (0.55mm); Number of Terminations: 2; Failure Rate: -
footprint SMD-0603-RES
pins: 1, 2

## ERJ-3EKF10R5V
designator R?, comment 10.5
RES SMD 10.5 OHM 1% 1/10W 0603; Part Number: ERJ-3EKF10R5V; Manufacturer: Panasonic Electronic Components; Factory Stock: 0; Unit Price (USD): 0.00379; @ qty: 1500; Minimum Quantity: 1; Power (Watts): 0.1W, 1/10W; Temperature Coefficient: ±100ppm/°C; Datasheets: http://industrial.panasonic.com/www-cgi/jvcr13pz.cgi?E+PZ+3+AOA0002+ERJ3EKF10R5V+7+WW; Image: //media.digikey.com/Photos/Panasonic%20Photos/MFG_ERJ-P6W%20Series.jpg; Digi-Key Part Number: P10.5HCT-ND; Quantity Available: 55683; Packaging: Cut Tape (CT); Series: ERJ; Part Status: Active; Value: 10.5; Tolerance: ±1%; Composition: Thick Film; Features: Automotive AEC-Q200; Operating Temperature: -55°C ~ 155°C; Package / Case: 0603 (1608 Metric); Supplier Device Package: 0603; Size / Dimension: 0.063" L x 0.031" W (1.60mm x 0.80mm); Height - Seated (Max): 0.022" (0.55mm); Number of Terminations: 2; Failure Rate: -
footprint SMD-0603-RES
pins: 1, 2

## ERJ-3EKF10R7V
designator R?, comment 10.7
RES SMD 10.7 OHM 1% 1/10W 0603; Part Number: ERJ-3EKF10R7V; Manufacturer: Panasonic Electronic Components; Factory Stock: 0; Unit Price (USD): 0.00379; @ qty: 1500; Minimum Quantity: 1; Power (Watts): 0.1W, 1/10W; Temperature Coefficient: ±100ppm/°C; Datasheets: http://industrial.panasonic.com/www-cgi/jvcr13pz.cgi?E+PZ+3+AOA0002+ERJ3EKF10R7V+7+WW; Image: //media.digikey.com/Photos/Panasonic%20Photos/MFG_ERJ-P6W%20Series.jpg; Digi-Key Part Number: P10.7HCT-ND; Quantity Available: 35225; Packaging: Cut Tape (CT); Series: ERJ; Part Status: Active; Value: 10.7; Tolerance: ±1%; Composition: Thick Film; Features: Automotive AEC-Q200; Operating Temperature: -55°C ~ 155°C; Package / Case: 0603 (1608 Metric); Supplier Device Package: 0603; Size / Dimension: 0.063" L x 0.031" W (1.60mm x 0.80mm); Height - Seated (Max): 0.022" (0.55mm); Number of Terminations: 2; Failure Rate: -
footprint SMD-0603-RES
pins: 1, 2

## ERJ-3EKF11R0V
designator R?, comment 11
RES SMD 11 OHM 1% 1/10W 0603; Part Number: ERJ-3EKF11R0V; Manufacturer: Panasonic Electronic Components; Factory Stock: 0; Unit Price (USD): 0.00379; @ qty: 1500; Minimum Quantity: 1; Power (Watts): 0.1W, 1/10W; Temperature Coefficient: ±100ppm/°C; Datasheets: http://industrial.panasonic.com/www-cgi/jvcr13pz.cgi?E+PZ+3+AOA0002+ERJ3EKF11R0V+7+WW; Image: //media.digikey.com/Photos/Panasonic%20Photos/MFG_ERJ-P6W%20Series.jpg; Digi-Key Part Number: P11.0HCT-ND; Quantity Available: 71959; Packaging: Cut Tape (CT); Series: ERJ; Part Status: Active; Value: 11; Tolerance: ±1%; Composition: Thick Film; Features: Automotive AEC-Q200; Operating Temperature: -55°C ~ 155°C; Package / Case: 0603 (1608 Metric); Supplier Device Package: 0603; Size / Dimension: 0.063" L x 0.031" W (1.60mm x 0.80mm); Height - Seated (Max): 0.022" (0.55mm); Number of Terminations: 2; Failure Rate: -
footprint SMD-0603-RES
pins: 1, 2

## ERJ-3EKF11R3V
designator R?, comment 11.3
RES SMD 11.3 OHM 1% 1/10W 0603; Part Number: ERJ-3EKF11R3V; Manufacturer: Panasonic Electronic Components; Factory Stock: 0; Unit Price (USD): 0.00379; @ qty: 1500; Minimum Quantity: 1; Power (Watts): 0.1W, 1/10W; Temperature Coefficient: ±100ppm/°C; Datasheets: http://industrial.panasonic.com/www-cgi/jvcr13pz.cgi?E+PZ+3+AOA0002+ERJ3EKF11R3V+7+WW; Image: //media.digikey.com/Photos/Panasonic%20Photos/MFG_ERJ-P6W%20Series.jpg; Digi-Key Part Number: P11.3HCT-ND; Quantity Available: 174755; Packaging: Cut Tape (CT); Series: ERJ; Part Status: Active; Value: 11.3; Tolerance: ±1%; Composition: Thick Film; Features: Automotive AEC-Q200; Operating Temperature: -55°C ~ 155°C; Package / Case: 0603 (1608 Metric); Supplier Device Package: 0603; Size / Dimension: 0.063" L x 0.031" W (1.60mm x 0.80mm); Height - Seated (Max): 0.022" (0.55mm); Number of Terminations: 2; Failure Rate: -
footprint SMD-0603-RES
pins: 1, 2

## ERJ-3EKF11R5V
designator R?, comment 11.5
RES SMD 11.5 OHM 1% 1/10W 0603; Part Number: ERJ-3EKF11R5V; Manufacturer: Panasonic Electronic Components; Factory Stock: 0; Unit Price (USD): 0.00379; @ qty: 1500; Minimum Quantity: 1; Power (Watts): 0.1W, 1/10W; Temperature Coefficient: ±100ppm/°C; Datasheets: http://industrial.panasonic.com/www-cgi/jvcr13pz.cgi?E+PZ+3+AOA0002+ERJ3EKF11R5V+7+WW; Image: //media.digikey.com/Photos/Panasonic%20Photos/MFG_ERJ-P6W%20Series.jpg; Digi-Key Part Number: P11.5HCT-ND; Quantity Available: 99530; Packaging: Cut Tape (CT); Series: ERJ; Part Status: Active; Value: 11.5; Tolerance: ±1%; Composition: Thick Film; Features: Automotive AEC-Q200; Operating Temperature: -55°C ~ 155°C; Package / Case: 0603 (1608 Metric); Supplier Device Package: 0603; Size / Dimension: 0.063" L x 0.031" W (1.60mm x 0.80mm); Height - Seated (Max): 0.022" (0.55mm); Number of Terminations: 2; Failure Rate: -
footprint SMD-0603-RES
pins: 1, 2

## ERJ-3EKF11R8V
designator R?, comment 11.8
RES SMD 11.8 OHM 1% 1/10W 0603; Part Number: ERJ-3EKF11R8V; Manufacturer: Panasonic Electronic Components; Factory Stock: 0; Unit Price (USD): 0.00379; @ qty: 1500; Minimum Quantity: 1; Power (Watts): 0.1W, 1/10W; Temperature Coefficient: ±100ppm/°C; Datasheets: http://industrial.panasonic.com/www-cgi/jvcr13pz.cgi?E+PZ+3+AOA0002+ERJ3EKF11R8V+7+WW; Image: //media.digikey.com/Photos/Panasonic%20Photos/MFG_ERJ-P6W%20Series.jpg; Digi-Key Part Number: P11.8HCT-ND; Quantity Available: 61704; Packaging: Cut Tape (CT); Series: ERJ; Part Status: Active; Value: 11.8; Tolerance: ±1%; Composition: Thick Film; Features: Automotive AEC-Q200; Operating Temperature: -55°C ~ 155°C; Package / Case: 0603 (1608 Metric); Supplier Device Package: 0603; Size / Dimension: 0.063" L x 0.031" W (1.60mm x 0.80mm); Height - Seated (Max): 0.022" (0.55mm); Number of Terminations: 2; Failure Rate: -
footprint SMD-0603-RES
pins: 1, 2

## ERJ-3EKF12R0V
designator R?, comment 12
RES SMD 12 OHM 1% 1/10W 0603; Part Number: ERJ-3EKF12R0V; Manufacturer: Panasonic Electronic Components; Factory Stock: 0; Unit Price (USD): 0.00379; @ qty: 1500; Minimum Quantity: 1; Power (Watts): 0.1W, 1/10W; Temperature Coefficient: ±100ppm/°C; Datasheets: http://industrial.panasonic.com/www-cgi/jvcr13pz.cgi?E+PZ+3+AOA0002+ERJ3EKF12R0V+7+WW; Image: //media.digikey.com/Photos/Panasonic%20Photos/MFG_ERJ-P6W%20Series.jpg; Digi-Key Part Number: P12.0HCT-ND; Quantity Available: 56842; Packaging: Cut Tape (CT); Series: ERJ; Part Status: Active; Value: 12; Tolerance: ±1%; Composition: Thick Film; Features: Automotive AEC-Q200; Operating Temperature: -55°C ~ 155°C; Package / Case: 0603 (1608 Metric); Supplier Device Package: 0603; Size / Dimension: 0.063" L x 0.031" W (1.60mm x 0.80mm); Height - Seated (Max): 0.022" (0.55mm); Number of Terminations: 2; Failure Rate: -
footprint SMD-0603-RES
pins: 1, 2

## ERJ-3EKF12R1V
designator R?, comment 12.1
RES SMD 12.1 OHM 1% 1/10W 0603; Part Number: ERJ-3EKF12R1V; Manufacturer: Panasonic Electronic Components; Factory Stock: 0; Unit Price (USD): 0.00379; @ qty: 1500; Minimum Quantity: 1; Power (Watts): 0.1W, 1/10W; Temperature Coefficient: ±100ppm/°C; Datasheets: http://industrial.panasonic.com/www-cgi/jvcr13pz.cgi?E+PZ+3+AOA0002+ERJ3EKF12R1V+7+WW; Image: //media.digikey.com/Photos/Panasonic%20Photos/MFG_ERJ-P6W%20Series.jpg; Digi-Key Part Number: P12.1HCT-ND; Quantity Available: 106181; Packaging: Cut Tape (CT); Series: ERJ; Part Status: Active; Value: 12.1; Tolerance: ±1%; Composition: Thick Film; Features: Automotive AEC-Q200; Operating Temperature: -55°C ~ 155°C; Package / Case: 0603 (1608 Metric); Supplier Device Package: 0603; Size / Dimension: 0.063" L x 0.031" W (1.60mm x 0.80mm); Height - Seated (Max): 0.022" (0.55mm); Number of Terminations: 2; Failure Rate: -
footprint SMD-0603-RES
pins: 1, 2

## ERJ-3EKF12R4V
designator R?, comment 12.4
RES SMD 12.4 OHM 1% 1/10W 0603; Part Number: ERJ-3EKF12R4V; Manufacturer: Panasonic Electronic Components; Factory Stock: 0; Unit Price (USD): 0.00379; @ qty: 1500; Minimum Quantity: 1; Power (Watts): 0.1W, 1/10W; Temperature Coefficient: ±100ppm/°C; Datasheets: http://industrial.panasonic.com/www-cgi/jvcr13pz.cgi?E+PZ+3+AOA0002+ERJ3EKF12R4V+7+WW; Image: //media.digikey.com/Photos/Panasonic%20Photos/MFG_ERJ-P6W%20Series.jpg; Digi-Key Part Number: P12.4HCT-ND; Quantity Available: 67743; Packaging: Cut Tape (CT); Series: ERJ; Part Status: Active; Value: 12.4; Tolerance: ±1%; Composition: Thick Film; Features: Automotive AEC-Q200; Operating Temperature: -55°C ~ 155°C; Package / Case: 0603 (1608 Metric); Supplier Device Package: 0603; Size / Dimension: 0.063" L x 0.031" W (1.60mm x 0.80mm); Height - Seated (Max): 0.022" (0.55mm); Number of Terminations: 2; Failure Rate: -
footprint SMD-0603-RES
pins: 1, 2

## ERJ-3EKF12R7V
designator R?, comment 12.7
RES SMD 12.7 OHM 1% 1/10W 0603; Part Number: ERJ-3EKF12R7V; Manufacturer: Panasonic Electronic Components; Factory Stock: 0; Unit Price (USD): 0.00379; @ qty: 1500; Minimum Quantity: 1; Power (Watts): 0.1W, 1/10W; Temperature Coefficient: ±100ppm/°C; Datasheets: http://industrial.panasonic.com/www-cgi/jvcr13pz.cgi?E+PZ+3+AOA0002+ERJ3EKF12R7V+7+WW; Image: //media.digikey.com/Photos/Panasonic%20Photos/MFG_ERJ-P6W%20Series.jpg; Digi-Key Part Number: P12.7HCT-ND; Quantity Available: 38782; Packaging: Cut Tape (CT); Series: ERJ; Part Status: Active; Value: 12.7; Tolerance: ±1%; Composition: Thick Film; Features: Automotive AEC-Q200; Operating Temperature: -55°C ~ 155°C; Package / Case: 0603 (1608 Metric); Supplier Device Package: 0603; Size / Dimension: 0.063" L x 0.031" W (1.60mm x 0.80mm); Height - Seated (Max): 0.022" (0.55mm); Number of Terminations: 2; Failure Rate: -
footprint SMD-0603-RES
pins: 1, 2

## ERJ-3EKF13R0V
designator R?, comment 13
RES SMD 13 OHM 1% 1/10W 0603; Part Number: ERJ-3EKF13R0V; Manufacturer: Panasonic Electronic Components; Factory Stock: 0; Unit Price (USD): 0.00379; @ qty: 1500; Minimum Quantity: 1; Power (Watts): 0.1W, 1/10W; Temperature Coefficient: ±100ppm/°C; Datasheets: http://industrial.panasonic.com/www-cgi/jvcr13pz.cgi?E+PZ+3+AOA0002+ERJ3EKF13R0V+7+WW; Image: //media.digikey.com/Photos/Panasonic%20Photos/MFG_ERJ-P6W%20Series.jpg; Digi-Key Part Number: P13.0HCT-ND; Quantity Available: 17247; Packaging: Cut Tape (CT); Series: ERJ; Part Status: Active; Value: 13; Tolerance: ±1%; Composition: Thick Film; Features: Automotive AEC-Q200; Operating Temperature: -55°C ~ 155°C; Package / Case: 0603 (1608 Metric); Supplier Device Package: 0603; Size / Dimension: 0.063" L x 0.031" W (1.60mm x 0.80mm); Height - Seated (Max): 0.022" (0.55mm); Number of Terminations: 2; Failure Rate: -
footprint SMD-0603-RES
pins: 1, 2

## ERJ-3EKF13R3V
designator R?, comment 13.3
RES SMD 13.3 OHM 1% 1/10W 0603; Part Number: ERJ-3EKF13R3V; Manufacturer: Panasonic Electronic Components; Factory Stock: 0; Unit Price (USD): 0.00379; @ qty: 1500; Minimum Quantity: 1; Power (Watts): 0.1W, 1/10W; Temperature Coefficient: ±100ppm/°C; Datasheets: http://industrial.panasonic.com/www-cgi/jvcr13pz.cgi?E+PZ+3+AOA0002+ERJ3EKF13R3V+7+WW; Image: //media.digikey.com/Photos/Panasonic%20Photos/MFG_ERJ-P6W%20Series.jpg; Digi-Key Part Number: P13.3HCT-ND; Quantity Available: 21114; Packaging: Cut Tape (CT); Series: ERJ; Part Status: Active; Value: 13.3; Tolerance: ±1%; Composition: Thick Film; Features: Automotive AEC-Q200; Operating Temperature: -55°C ~ 155°C; Package / Case: 0603 (1608 Metric); Supplier Device Package: 0603; Size / Dimension: 0.063" L x 0.031" W (1.60mm x 0.80mm); Height - Seated (Max): 0.022" (0.55mm); Number of Terminations: 2; Failure Rate: -
footprint SMD-0603-RES
pins: 1, 2

## ERJ-3EKF13R7V
designator R?, comment 13.7
RES SMD 13.7 OHM 1% 1/10W 0603; Part Number: ERJ-3EKF13R7V; Manufacturer: Panasonic Electronic Components; Factory Stock: 0; Unit Price (USD): 0.00379; @ qty: 1500; Minimum Quantity: 1; Power (Watts): 0.1W, 1/10W; Temperature Coefficient: ±100ppm/°C; Datasheets: http://industrial.panasonic.com/www-cgi/jvcr13pz.cgi?E+PZ+3+AOA0002+ERJ3EKF13R7V+7+WW; Image: //media.digikey.com/Photos/Panasonic%20Photos/MFG_ERJ-P6W%20Series.jpg; Digi-Key Part Number: P13.7HCT-ND; Quantity Available: 75651; Packaging: Cut Tape (CT); Series: ERJ; Part Status: Active; Value: 13.7; Tolerance: ±1%; Composition: Thick Film; Features: Automotive AEC-Q200; Operating Temperature: -55°C ~ 155°C; Package / Case: 0603 (1608 Metric); Supplier Device Package: 0603; Size / Dimension: 0.063" L x 0.031" W (1.60mm x 0.80mm); Height - Seated (Max): 0.022" (0.55mm); Number of Terminations: 2; Failure Rate: -
footprint SMD-0603-RES
pins: 1, 2

## ERJ-3EKF14R0V
designator R?, comment 14
RES SMD 14 OHM 1% 1/10W 0603; Part Number: ERJ-3EKF14R0V; Manufacturer: Panasonic Electronic Components; Factory Stock: 0; Unit Price (USD): 0.00379; @ qty: 1500; Minimum Quantity: 1; Power (Watts): 0.1W, 1/10W; Temperature Coefficient: ±100ppm/°C; Datasheets: http://industrial.panasonic.com/www-cgi/jvcr13pz.cgi?E+PZ+3+AOA0002+ERJ3EKF14R0V+7+WW; Image: //media.digikey.com/Photos/Panasonic%20Photos/MFG_ERJ-P6W%20Series.jpg; Digi-Key Part Number: P14.0HCT-ND; Quantity Available: 61905; Packaging: Cut Tape (CT); Series: ERJ; Part Status: Active; Value: 14; Tolerance: ±1%; Composition: Thick Film; Features: Automotive AEC-Q200; Operating Temperature: -55°C ~ 155°C; Package / Case: 0603 (1608 Metric); Supplier Device Package: 0603; Size / Dimension: 0.063" L x 0.031" W (1.60mm x 0.80mm); Height - Seated (Max): 0.022" (0.55mm); Number of Terminations: 2; Failure Rate: -
footprint SMD-0603-RES
pins: 1, 2

## ERJ-3EKF14R3V
designator R?, comment 14.3
RES SMD 14.3 OHM 1% 1/10W 0603; Part Number: ERJ-3EKF14R3V; Manufacturer: Panasonic Electronic Components; Factory Stock: 0; Unit Price (USD): 0.00379; @ qty: 1500; Minimum Quantity: 1; Power (Watts): 0.1W, 1/10W; Temperature Coefficient: ±100ppm/°C; Datasheets: http://industrial.panasonic.com/www-cgi/jvcr13pz.cgi?E+PZ+3+AOA0002+ERJ3EKF14R3V+7+WW; Image: //media.digikey.com/Photos/Panasonic%20Photos/MFG_ERJ-P6W%20Series.jpg; Digi-Key Part Number: P14.3HCT-ND; Quantity Available: 12920; Packaging: Cut Tape (CT); Series: ERJ; Part Status: Active; Value: 14.3; Tolerance: ±1%; Composition: Thick Film; Features: Automotive AEC-Q200; Operating Temperature: -55°C ~ 155°C; Package / Case: 0603 (1608 Metric); Supplier Device Package: 0603; Size / Dimension: 0.063" L x 0.031" W (1.60mm x 0.80mm); Height - Seated (Max): 0.022" (0.55mm); Number of Terminations: 2; Failure Rate: -
footprint SMD-0603-RES
pins: 1, 2

## ERJ-3EKF14R7V
designator R?, comment 14.7
RES SMD 14.7 OHM 1% 1/10W 0603; Part Number: ERJ-3EKF14R7V; Manufacturer: Panasonic Electronic Components; Factory Stock: 0; Unit Price (USD): 0.00379; @ qty: 1500; Minimum Quantity: 1; Power (Watts): 0.1W, 1/10W; Temperature Coefficient: ±100ppm/°C; Datasheets: http://industrial.panasonic.com/www-cgi/jvcr13pz.cgi?E+PZ+3+AOA0002+ERJ3EKF14R7V+7+WW; Image: //media.digikey.com/Photos/Panasonic%20Photos/MFG_ERJ-P6W%20Series.jpg; Digi-Key Part Number: P14.7HCT-ND; Quantity Available: 82058; Packaging: Cut Tape (CT); Series: ERJ; Part Status: Active; Value: 14.7; Tolerance: ±1%; Composition: Thick Film; Features: Automotive AEC-Q200; Operating Temperature: -55°C ~ 155°C; Package / Case: 0603 (1608 Metric); Supplier Device Package: 0603; Size / Dimension: 0.063" L x 0.031" W (1.60mm x 0.80mm); Height - Seated (Max): 0.022" (0.55mm); Number of Terminations: 2; Failure Rate: -
footprint SMD-0603-RES
pins: 1, 2